# Altium schematic symbol library diode.SchLib: 19 symbols
Pins are listed as number, name and electrical type; pins without a type are passive.

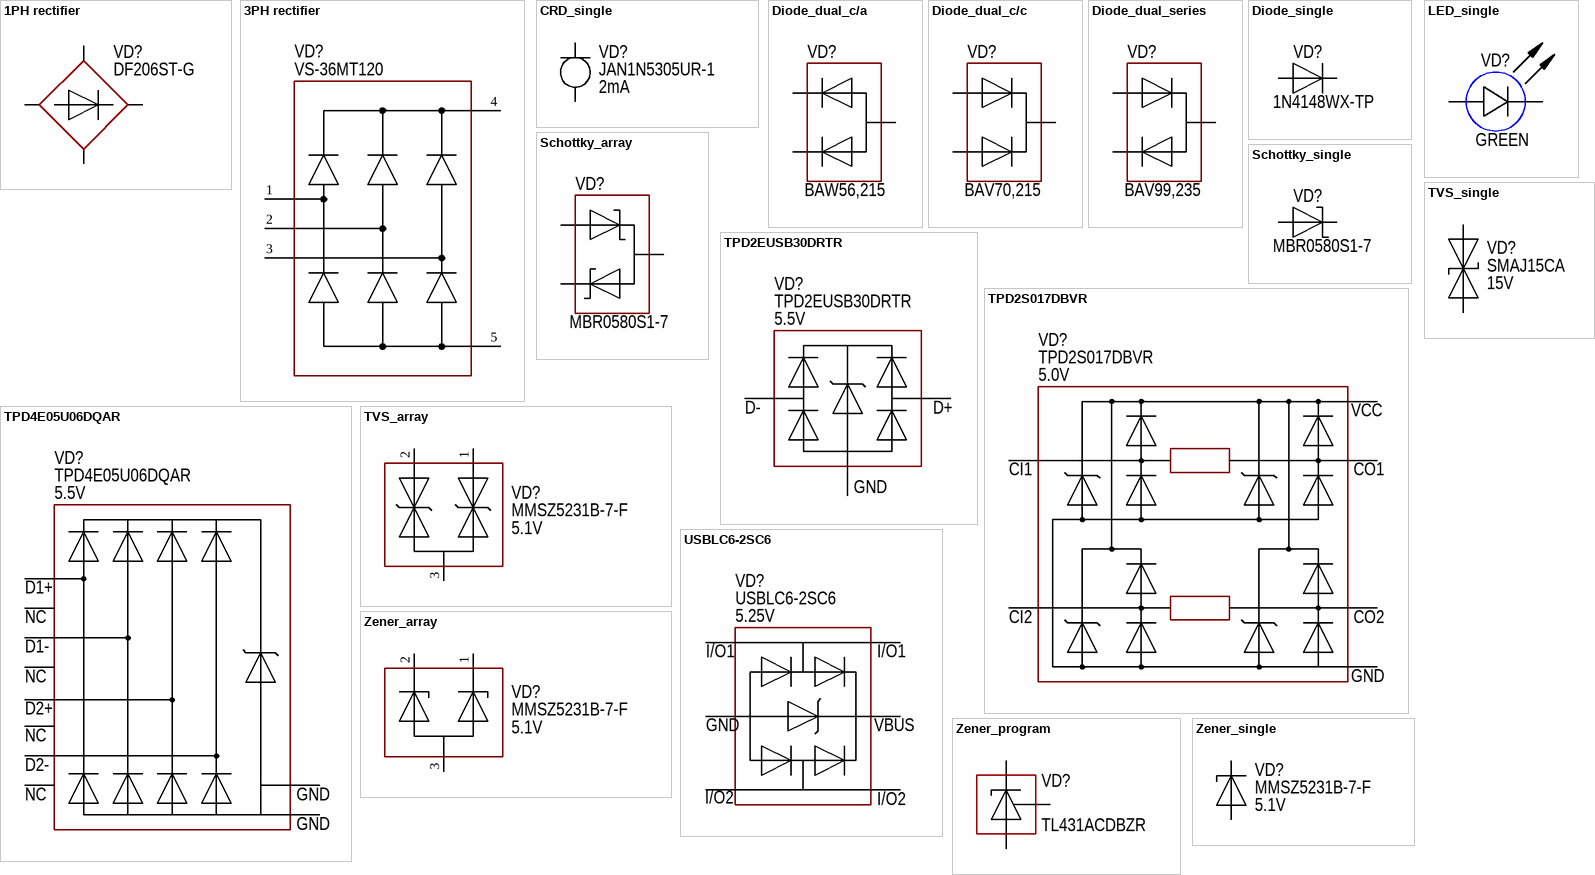
[diagram p0: symbols 1PH rectifier to Zener_single]

## 1PH rectifier
designator VD?  PartNumber: DF206ST-G
Manufacturer: Comchip Technology; ValueManufacturerPartNumber: Single phase rectifier, 600V, 2A, 1.1V, 4-SMD, -55...+150°C; TypeDiode: Single phase rectifier; Voltage: 600V; Current: 2A; VoltageDrop: 1.1V; Package: 4-SMD; HelpURL: https://www.digikey.com/product-detail/en/comchip-technology/DF206ST-G/641-1425-1-ND/2208797; Temperature: -55...+150°C
footprint BRIDGE_CD-MBL2
footprint BRIDGE_DF206S-G
footprint BRIDGE_GBU (SMD Diode Bridge)
footprint BRIDGE_KBU6M
footprint BRIDGE_GBU (90 deg) (SMD Diode Bridge)
pins: 1, 2, 3, 4

## 3PH rectifier
designator VD?  PartNumber: VS-36MT120
Manufacturer: Vishay Semiconductor; ValueManufacturerPartNumber: Three phase rectifier, 1200V, 35A, 1.19V, case D-63, -55...+150°C; TypeDiode: Three phase rectifier; Voltage: 1200V; Current: 35A; VoltageDrop: 1.19V; Package: case D-63; HelpURL: https://www.digikey.com/products/en?keywords=vs-36MT120; Temperature: -55...+150°C
footprint BRIDGE_VS-36MT120
pins: 1, 2, 3, 4, 5

## CRD_single
designator VD?  PartNumber: JAN1N5305UR-1  Current: 2mA
Manufacturer: Microsemi Corporation; ValueManufacturerPartNumber: Diode Current Regulator, 100V, 2mA, DO-213AB, -65...+175°C; TypeDiode: Diode Current Regulator; Voltage: 100V; Package: DO-213AB; HelpURL: https://www.digikey.com/product-detail/en/microsemi-corporation/JAN1N5305UR-1/1086-18888-ND/5350539; Temperature: -65...+175°C
footprint DIODE_SOD123W
footprint DIODE_DO-213AB (MELF) (MELF Diode, 2-Leads, Body 5,01x2,53mm, IPC Medium Density)
pins: 1 A, 2 C

## Diode_dual_c/a
designator VD?  PartNumber: BAW56,215
Manufacturer: Nexperia; ValueManufacturerPartNumber: Switching Diode, 90V, 215mA, 1.25V, 4ns, SOT-23-3, -65...+150°C; TypeDiode: Switching Diode; Voltage: 90V; Current: 215mA; VoltageDrop: 1.25V; RecoveryTime: 4ns; Package: SOT-23-3; HelpURL: https://www.mouser.com/ProductDetail/Nexperia/BAW56215?qs=me8TqzrmIYUfuzaOxV%252BKJQ%3D%3D; Temperature: -65...+150°C
footprint SC-70
footprint SOT23
pins: 1, 2, 3

## Diode_dual_c/c
designator VD?  PartNumber: BAV70,215
Manufacturer: Nexperia; ValueManufacturerPartNumber: Switching Diode, 100V, 215mA, 1.25V, 4ns, SOT-23-3, -65...+150°C; TypeDiode: Switching Diode; Voltage: 100V; Current: 215mA; VoltageDrop: 1.25V; RecoveryTime: 4ns; Package: SOT-23-3; HelpURL: https://www.mouser.com/ProductDetail/Nexperia/BAV70215?qs=me8TqzrmIYX%252B%2FJ6jIjzNeA%3D%3D; Temperature: -65...+150°C
footprint SC-70
footprint SOT23
pins: 1, 2, 3

## Diode_dual_series
designator VD?  PartNumber: BAV99,235
Manufacturer: Nexperia; ValueManufacturerPartNumber: Switching Diode, 100V, 215mA, 1.25V, 4ns, SOT-23-3, -65...+150°C; TypeDiode: Switching Diode; Voltage: 100V; Current: 215mA; VoltageDrop: 1.25V; RecoveryTime: 4ns; Package: SOT-23-3; HelpURL: https://www.mouser.com/ProductDetail/Nexperia/BAV99235?qs=me8TqzrmIYWUP4h8SbZlfQ%3D%3D; Temperature: -65...+150°C
footprint SC-70
footprint SOT23
pins: 1, 2, 3

## Diode_single
designator VD?  PartNumber: 1N4148WX-TP
Manufacturer: Micro Commercial; ValueManufacturerPartNumber: Single diode, 75V, 150mA, 1V, 4ns, SOD-323, -55...+150°C; TypeDiode: Single diode; Voltage: 75V; Current: 150mA; VoltageDrop: 1V; RecoveryTime: 4ns; Package: SOD-323; HelpURL: https://www.digikey.com/product-detail/en/micro-commercial-co/1N4148WX-TP/1N4148WXTPMSCT-ND/717312; Temperature: -55...+150°C
footprint DIODE_SMA
footprint DIODE_SMB
footprint DIODE_SMC
footprint DIODE_SOD80
footprint DIODE_SOD123
footprint DIODE_SOD123F
footprint DIODE_SOD123W
footprint DIODE_SOD323
footprint DIODE_SOD523
footprint TO-252-2 DIODE (DPAK)
pins: 1 A, 2 K

## LED_single
designator VD?  Color: GREEN
ValueManufacturerPartNumber: LED, Green, *, *, *, -55...+150°C; TypeDiode: LED; Manufacturer: *; Package: *; HelpURL: *; Temperature: -55...+150°C; Current: *; VoltageDrop: *; PartNumber: *; ColorParameter: Green
footprint LED_SMD_0402B
footprint LED_SMD_0402G
footprint LED_SMD_0402O
footprint LED_SMD_0402R
footprint LED_SMD_0402Y
footprint LED_SMD_0603B
footprint LED_SMD_0603G
footprint LED_SMD_0603R
footprint LED_SMD_0603Y
footprint LED_SMD_0805B
footprint LED_SMD_0805G
footprint LED_SMD_0805R
footprint LED_SMD_0805Y
footprint LED_SMD_1206B
footprint LED_SMD_1206G
footprint LED_SMD_1206R
footprint LED_SMD_1206W
footprint LED_SMD_1206Y
footprint LED_SMD_5730
footprint LED_SMD_6868
footprint LED_KINGBRIGHT_KPA-1606CGCK (SMT Green LED, Right Angle Mount, Body L 1.6 x W 0.6mm H 1.2mm)
footprint LED_LITE-ON_LTST-S270KGKT (SMT Green LED, Right Angle Mount, Body L 1.65 x W 0.68mm H 1.15mm)
pins: 1 A, 2 C

## Schottky_array
designator VD?  PartNumber: MBR0580S1-7
Manufacturer: Diodes Incorporated; ValueManufacturerPartNumber: Schottky diode, 80V, 500mA, 1V, 15pF, SOD-123, -55...+150°C; TypeDiode: Schottky diode; Voltage: 80V; Current: 500mA; VoltageDrop: 1V; RecoveryTime: 15pF; Package: SOD-123; HelpURL: https://www.digikey.com/product-detail/en/diodes-incorporated/MBR0580S1-7/MBR0580S1-7DICT-ND/5080371; Temperature: -55...+150°C
footprint SC-70
footprint SOT23
pins: 1, 2, 3

## Schottky_single
designator VD?  PartNumber: MBR0580S1-7
Manufacturer: Diodes Incorporated; ValueManufacturerPartNumber: Schottky diode, 80V, 500mA, 1V, 15pF, SOD-123, -55...+150°C; TypeDiode: Schottky diode; Voltage: 80V; Current: 500mA; VoltageDrop: 1V; RecoveryTime: 15pF; Package: SOD-123; HelpURL: https://www.digikey.com/product-detail/en/diodes-incorporated/MBR0580S1-7/MBR0580S1-7DICT-ND/5080371; Temperature: -55...+150°C
footprint DIODE_SMA
footprint DIODE_SMB
footprint DIODE_SMC
footprint DIODE_SOD80
footprint DIODE_SOD123
footprint DIODE_SOD123F
footprint DIODE_SOD123W
footprint DIODE_SOD323
footprint DIODE_SOD523
footprint TO-252-2 DIODE (DPAK)
pins: 1, 2

## TPD2EUSB30DRTR
designator VD?  WorkingVoltage: 5.5V  PartNumber: TPD2EUSB30DRTR
Manufacturer: Texas Instruments; ValueManufacturerPartNumber: ESD Suppressor, 2, 5.5V, 9.0V, 8.0V, 9kV, 8kV, SOT-3, -40...+85°C; TypeDiode: ESD Suppressor; NumberChannels: 2; BreakdownVoltage: 9.0V; ClampingVoltage: 8.0V; VoltageESDAir: 9kV; VoltageESDContact: 8kV; Package: SOT-3; HelpURL: https://eu.mouser.com/ProductDetail/Texas-Instruments/TPD2EUSB30DRTR?qs=%2Fqzd9s%252BcLd6bPJi5HXCDvw%3D%3D; Temperature: -40...+85°C
footprint SOT3 (L35P100X50-3N) (SOTFL, 3-Leads, Body 1,00x1,00mm, Pitch 0,35mm, IPC Medium Density)
pins: 1 D+, 2 D-, 3
text: GND

## TPD2S017DBVR
designator VD?  WorkingVoltage: 5.0V  PartNumber: TPD2S017DBVR
Manufacturer: Texas Instruments; ValueManufacturerPartNumber: ESD Suppressor, 2, 5.0V, 11.0V, 14.0V, 11.0kV, 11.0kV, SOT-23-6, -40...+85°C; TypeDiode: ESD Suppressor; NumberChannels: 2; BreakdownVoltage: 11.0V; ClampingVoltage: 14.0V; VoltageESDAir: 11.0kV; Package: SOT-23-6; HelpURL: https://eu.mouser.com/ProductDetail/Texas-Instruments/TPD2S017DBVR?qs=OaSNdy%2FNfznGQ7ML7Wt%252BOg%3D%3D; Temperature: -40...+85°C; VoltageESDContact: 11.0kV
footprint SOT23-6 (pitch 0.95 mm)
pins: 1 CH1_OUT, 2 GND, 3 CH1_IN, 4 CH2_IN, 5 VCC, 6 CH2_OUT
text: CI1; CO1; CI2; CO2

## TPD4E05U06DQAR
designator VD?  WorkingVoltage: 5.5V  PartNumber: TPD4E05U06DQAR
Manufacturer: Texas Instruments; ValueManufacturerPartNumber: ESD Suppressor, 4, 5.5V, 6.0V, 10.0V, 15kV, 12kV, USON-10, -40...+125°C; TypeDiode: ESD Suppressor; NumberChannels: 4; BreakdownVoltage: 6.0V; ClampingVoltage: 10.0V; VoltageESDAir: 15kV; VoltageESDContact: 12kV; Package: USON-10; HelpURL: https://eu.mouser.com/ProductDetail/Texas-Instruments/TPD4E05U06DQAR?qs=%2FCrDlo5IrVPi4woOvWz0qA%3D%3D; Temperature: -40...+125°C
footprint ESD_TI_TPD4E05U06DQAR (SON (DFN), 50mm Pitch; 10 Pin, 1.00mm W X 2.50mm L X 0.50mm H body)
pins: 1 D1+, 2 D1-, 3 GND, 4 D2+, 5 D2-, 6 NC, 7 NC, 8 GND, 9 NC, 10 NC

## TVS_array
designator VD?  Voltage: 5.1V  PartNumber: MMSZ5231B-7-F
Manufacturer: Diodes Incorporated; ValueManufacturerPartNumber: Zener diode, 5.1V, 500mW, 0.9V, 17Ohm, SOD-123, -55...+150°C; TypeDiode: Zener diode; Current: 500mW; VoltageDrop: 0.9V; RecoveryTime: 17Ohm; Package: SOD-123; HelpURL: https://www.digikey.com/product-detail/en/diodes-incorporated/MMSZ5231B-7-F/MMSZ5231B-FDICT-ND/755506; Temperature: -55...+150°C
footprint SC-70
footprint SOT23
pins: 1, 2, 3

## TVS_single
designator VD?  VoltageReverseStandoff: 15V  PartNumber: SMAJ15CA
Manufacturer: Littelfuse; ValueManufacturerPartNumber: TVS Diodes, 15V, 16.7V, 24.4V, 16.4A, Bidirectional, DO-214AC-2, -55...+150°C; TypeDiode: TVS Diodes; VoltageBreakdown: 16.7V; VoltageClamping: 24.4V; Polarity: Bidirectional; CurrentPeakPulse: 16.4A; Package: DO-214AC-2; HelpURL: https://www.digikey.com/en/products/detail/littelfuse-inc/SMAJ15CA/762277; Temperature: -55...+150°C
footprint DIODE_SMA
footprint DIODE_SMB
footprint DIODE_SMC
footprint DIODE_SOD80
footprint DIODE_SOD123
footprint DIODE_SOD123F
footprint DIODE_SOD123W
footprint DIODE_SOD323
footprint DIODE_SOD523
pins: 1 A, 2 C

## USBLC6-2SC6
designator VD?  WorkingVoltage: 5.25V  PartNumber: USBLC6-2SC6
Manufacturer: STMicroelectronics; ValueManufacturerPartNumber: ESD Suppressor, 2, 5.25V, 6.0V, 17.0V, 15kV, 15kV, SOT-23-6, -40...+125°C; TypeDiode: ESD Suppressor; NumberChannels: 2; BreakdownVoltage: 6.0V; ClampingVoltage: 17.0V; VoltageESDAir: 15kV; Package: SOT-23-6; HelpURL: https://eu.mouser.com/ProductDetail/STMicroelectronics/USBLC6-2SC6?qs=po45yt2pPpu%2FhNIlwQdTlg%3D%3D; Temperature: -40...+125°C; VoltageESDContact: 15kV
footprint SOT23-6 (pitch 0.95 mm)
pins: 1 I/O1, 2 GND, 3 I/O2, 4 I/O2, 5 VBUS, 6 I/O1

## Zener_array
designator VD?  Voltage: 5.1V  PartNumber: MMSZ5231B-7-F
Manufacturer: Diodes Incorporated; ValueManufacturerPartNumber: Zener diode, 5.1V, 500mW, 0.9V, 17Ohm, SOD-123, -55...+150°C; TypeDiode: Zener diode; Current: 500mW; VoltageDrop: 0.9V; RecoveryTime: 17Ohm; Package: SOD-123; HelpURL: https://www.digikey.com/product-detail/en/diodes-incorporated/MMSZ5231B-7-F/MMSZ5231B-FDICT-ND/755506; Temperature: -55...+150°C
footprint SC-70
footprint SOT23
pins: 1, 2, 3

## Zener_program
designator VD?  PartNumber: TL431ACDBZR
Manufacturer: Texas Instruments; ValueManufacturerPartNumber: Program zener diode, 36V, 100mA, 2.495V, ±1%, SOT-23, 0...+70°C; TypeDiode: Program zener diode; Current: 100mA; VoltageDrop: 2.495V; Tolerance: ±1%; Voltage: 36V; Package: SOT-23; HelpURL: https://www.digikey.com/product-detail/en/texas-instruments/TL431ACDBZR/296-17328-1-ND/686884; Temperature: 0...+70°C
footprint SOT23
pins: 1, 2, 3

## Zener_single
designator VD?  Voltage: 5.1V  PartNumber: MMSZ5231B-7-F
Manufacturer: Diodes Incorporated; ValueManufacturerPartNumber: Zener diode, 5.1V, 500mW, 0.9V, 17Ohm, SOD-123, -55...+150°C; TypeDiode: Zener diode; Current: 500mW; VoltageDrop: 0.9V; RecoveryTime: 17Ohm; Package: SOD-123; HelpURL: https://www.digikey.com/product-detail/en/diodes-incorporated/MMSZ5231B-7-F/MMSZ5231B-FDICT-ND/755506; Temperature: -55...+150°C
footprint DIODE_SMA
footprint DIODE_SMB
footprint DIODE_SMC
footprint DIODE_SOD80
footprint DIODE_SOD123
footprint DIODE_SOD123F
footprint DIODE_SOD123W
footprint DIODE_SOD323
footprint DIODE_SOD523
footprint DIODE_DO15 (DO-204AC)
pins: 1 A, 2 C